# Altium schematic symbol library PowerBlock.SchLib: 3 symbols
Pins are listed as number, name and electrical type; pins without a type are passive.

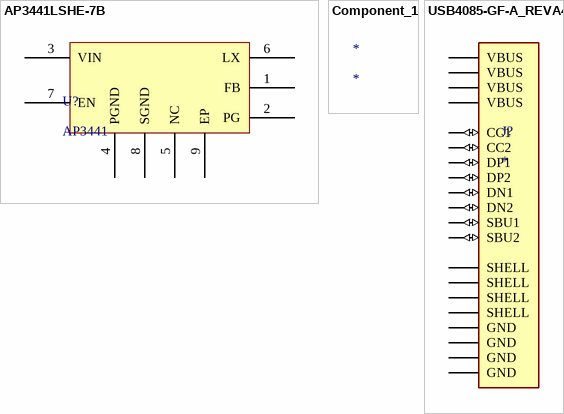
[diagram p0: symbols AP3441LSHE-7B to USB4085-GF-A_REVA4]

## AP3441LSHE-7B
designator U?, comment AP3441
DC-DC Switching Buck Regulator, Adjustable, 2.7 to 5.5 V in, 0.6 to 5.5 V/3 A, U-DFN2020-8; Manufacturer: Diodes Inc.; Manufacturer Part Number: AP3441LSHE-7B; Manufacturer Package Identifier: U-DFN2020-8 (Type E); Max Duty Cycle: 100%; Max Supply Voltage: 5.5V; Max Junction Temperature (Tj): 125°C; Max Power Dissipation: 1.4W; Max Switching Frequency: 1.2MHz; Min Input Voltage: 2.7V; Min Output Voltage: 600mV; Nominal Supply Voltage: 5V; Nominal Output Voltage: 2.5V; Nominal Supply Current: 55µA; Number of Circuits: 1; Output Current: 3A; Switching Frequency: 1MHz; Supplier: Newark; Supplier Part Number: AP3441LSHE-7B; RoHS: Compliant; Category: Voltage Regulators - Switching; Pricing: 5=0.314, 15=0.217, 25=0.193 (USD); Ambient Temperature Range High: 85°C; China RoHS: Compliant; Height: 600µm; Height - Seated (Max): 600µm; Length: 2mm; Lifecycle Status: Production; Max Operating Temperature: 85°C; Max Output Voltage: 5.5V; Min Operating Temperature: -40°C; Min Supply Voltage: 2.7V; Nominal Supply Voltage (DC): 5V; Number of Outputs: 1; Number of Terminals: 8; REACH SVHC: Yes; Terminal Pitch: 500µm; Topology: Buck; Width: 2mm; ComponentLink1URL: https://datasheet.octopart.com:443/AP3441LSHE-7B-Diodes-Inc.-datasheet-151209809.pdf?src-supplier=IHS; ComponentLink1Description: https://datasheet.octopart.com:443/AP3441LSHE-7B-Diodes-Inc.-datasheet-151209809.pdf?src-supplier=IHS; ComponentLink2URL: https://sigma.octopart.com:443/151209808/technical_drawing/Diodes-Inc.-AP3441LSHE-7B.pdf?src-supplier=Upverter; ComponentLink2Description: https://sigma.octopart.com:443/151209808/technical_drawing/Diodes-Inc.-AP3441LSHE-7B.pdf?src-supplier=Upverter
footprint SON50P201X201X60-9M (SON, 8-Leads, Body 2.01x2.01mm, Pitch 0.50mm, Thermal Pad 1.70x0.90mm, IPC Low Density)
pins: 1 FB, 2 PG, 3 VIN (power), 4 PGND (power), 5 NC (power), 6 LX, 7 EN, 8 SGND (power), 9 EP

## Component_1
designator *

## USB4085-GF-A_REVA4
designator J?
USB-C (USB TYPE-C) USB 2.0 Receptacle Connector 24 (16+8 Dummy) Position Through Hole, Right Angle, low cost, 3.46mm profile, 16 pin, horizontal, Top mount; MP: USB4085-GF-A; MF: Global Connector Technology; SnapEDA_Link: https://www.snapeda.com/parts/USB4085-GF-A/Global+Connector+Technology/view-part/?ref=snap; Package: None; Check_prices: https://www.snapeda.com/parts/USB4085-GF-A/Global+Connector+Technology/view-part/?ref=eda; Purchase-URL: https://pricing.snapeda.com/search/part/USB4085-GF-A/?ref=eda; Price: None; Value: *; Availability: In Stock
footprint GCT_USB4085-GF-A_REVA4
pins: A1 GND (power), A4 VBUS (power), A5 CC1 (io), A6 DP1 (io), A7 DN1 (io), A8 SBU1 (io), A9 VBUS (power), A12 GND (power), B1 GND (power), B4 VBUS (power), B5 CC2 (io), B6 DP2 (io), B7 DN2 (io), B8 SBU2 (io), B9 VBUS (power), B12 GND (power), S1 SHELL, S2 SHELL, S3 SHELL, S4 SHELL